# EAGLE library part LTC6991CS6TRMPBF (library LTC6991CS6TRMPBF)
Frequency Oscillator
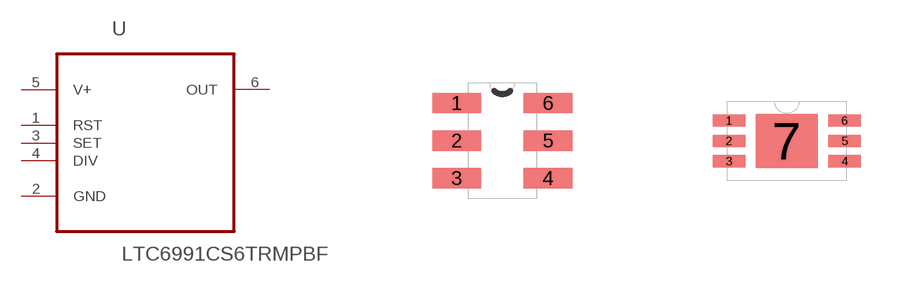
[diagram p0: symbol with the pads of SOT95P280X100-6N; footprints SOT95P280X100-6N, DFN]

Designator prefix U

## LTC6991CS6TRMPBF (AVAILABILITY: Unavailable; DESCRIPTION: Silicon Oscillator 0.0000000000291MHz to 0.000977MHz CMOS Automotive 6-Pin TSOT-23 Tape and Reel; MF: Linear Technology; MP: LTC6991CS6#TRMPBF; PACKAGE: TSOT-23 Linear Technology; PRICE: None)  [SOT95P280X100-6N]
1  RST  in
2  GND  pas
3  SET  in
4  DIV  in
5  V+  pwr
6  OUT  out

## LTC6991CS6TRMPBFDFN  [DFN]
1  V+  pwr
2  DIV  in
3  SET  in
4  RST  in
5  GND  pas
6  OUT  out
7  GND  pas

## Footprint SOT95P280X100-6N (pad centres in mm)
smd 1.219 x 0.508: 1 -1.143,0.94; 2 -1.143,0; 3 -1.143,-0.94; 4 1.143,-0.94; 5 1.143,0; 6 1.143,0.94

## Footprint DFN (pad centres in mm)
smd 0.813 x 0.305: 1 -2.718,0.508; 2 -2.718,0; 3 -2.718,-0.508; 4 0.178,-0.508; 5 0.178,0; 6 0.178,0.508
smd 1.549 x 1.346: 7 -1.27,0